# Altium schematic symbol library FQB22P10.SchLib: 1 symbol
Pins are listed as number, name and electrical type; pins without a type are passive.

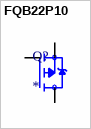
[diagram p0: symbol FQB22P10]

## FQB22P10
designator Q?
P-Channel 100V 22A (Tc) 3.75W (Ta), 125W (Tc) Surface Mount DÂ²PAK (TO-263AB); MF: ON Semiconductor; MP: FQB22P10; SnapEDA_Link: https://www.snapeda.com/parts/FQB22P10/ON%20Semiconductor/view-part/2816206/?ref=snap; Availability: Bad; Value: *; Check_prices: https://www.snapeda.com/parts/FQB22P10/ON%20Semiconductor/view-part/2816206/?ref=eda; Package: TO-263-3 ON Semiconductor; Price: None
footprint FQB22P10
pins: 1 G, 3 S, 4 D